# Altium footprint library Misc.PcbLib: 1 footprints
Each footprint in its own frame and in the unit in brackets; x right, y up, seen from the top. Pads: shape width x height; smd on the part's side, far side on the other; paste and mask are expansions set on the pad; w line width, h text height; cw(c..) or ccw(c..) is an arc to the next point about the centre after c.
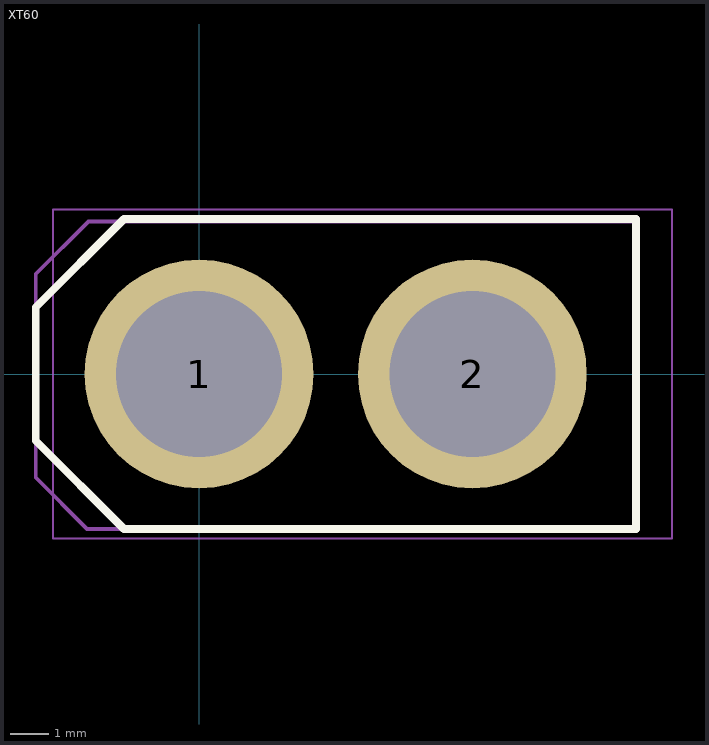
[diagram p0: the footprint, top view; thin cyan lines are the x and y axes]

## XT60 [mm] "XT60 connector"
pads (2):
  round 6 hole 4.35: 1(0,0) 2(7.163,0)
L26-Silk Screen Top (Multiple PADS layers...):
  lines w0.2: -4.282,-1.752 -4.282,1.752 -1.97,4.064 11.453,4.064 11.453,-4.064 -1.97,-4.064 -4.282,-1.752
L15 (Multiple PADS layers...):
  lines w0.1: 11.453,4.064 11.453,-4.064 -2.936,-4.064 -4.282,-2.718 -4.282,2.618 -2.9,4 11.5,4
L20:
  lines w0.05: -3.832,-4.314 12.403,-4.314 12.403,4.314 -3.832,4.314 -3.832,-4.314